# EAGLE library part MB82B78PF (library micro-fujitsu)
MICROCONTROLLER/MEMORY DEVICE
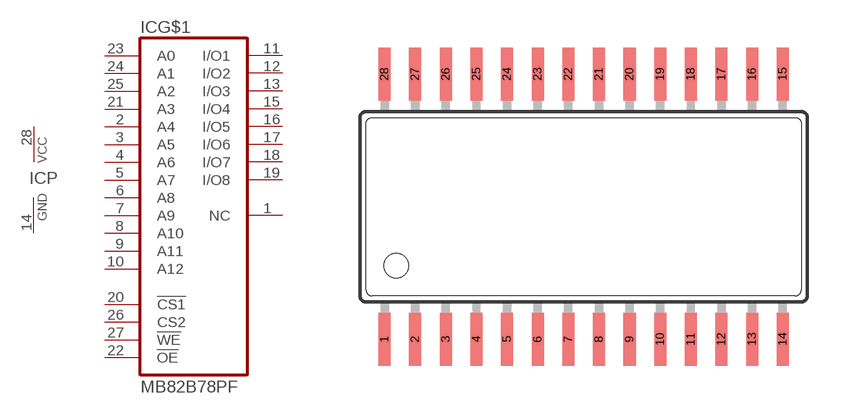
[diagram p16: symbol with the pads of SOP28; footprint SOP28]

Designator prefix IC; gates G$1=MB81C78 P=VCC-GND

## MB82B78PF (OC_FARNELL: unknown; OC_NEWARK: unknown)  [SOP28]
1  G$1:NC  nc
2  G$1:A4  in
3  G$1:A5  in
4  G$1:A6  in
5  G$1:A7  in
6  G$1:A8  in
7  G$1:A9  in
8  G$1:A10  in
9  G$1:A11  in
10  G$1:A12  in
11  G$1:I/O1
12  G$1:I/O2
13  G$1:I/O3
14  P:GND  pwr
15  G$1:I/O4  nc
16  G$1:I/O5
17  G$1:I/O6
18  G$1:I/O7
19  G$1:I/O8
20  G$1:!CS1  in
21  G$1:A3  in
22  G$1:!OE  in
23  G$1:A0  in
24  G$1:A1  in
25  G$1:A2  in
26  G$1:CS2  in
27  G$1:!WE  in
28  P:VCC  pwr

## Footprint SOP28 (pad centres in mm)
Small Outline Package
smd 0.5 x 2.2: 1 -8.255,-5.5; 2 -6.985,-5.5; 3 -5.715,-5.5; 4 -4.445,-5.5; 5 -3.175,-5.5; 6 -1.905,-5.5; 7 -0.635,-5.5; 8 0.635,-5.5; 9 1.905,-5.5; 10 3.175,-5.5; 11 4.445,-5.5; 12 5.715,-5.5; 13 6.985,-5.5; 14 8.255,-5.5; 15 8.255,5.5; 16 6.985,5.5; 17 5.715,5.5; 18 4.445,5.5; 19 3.175,5.5; 20 1.905,5.5; 21 0.635,5.5; 22 -0.635,5.5; 23 -1.905,5.5; 24 -3.175,5.5; 25 -4.445,5.5; 26 -5.715,5.5; 27 -6.985,5.5; 28 -8.255,5.5